# EAGLE library part WROOM02-13 (library wroom02)
Wroom by Espressif
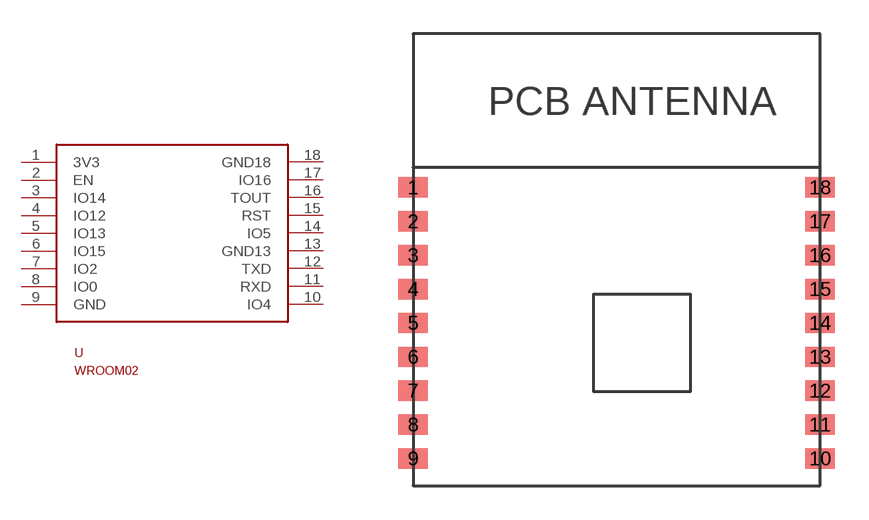
[diagram p0: symbol with the pads of WROOM02; footprint WROOM02]

Designator prefix -

## WROOM02-13  [WROOM02]
1  3V3
2  EN
3  IO14
4  IO12
5  IO13
6  IO15
7  IO2
8  IO0
9  GND
10  IO4
11  RXD
12  TXD
13  GND13
14  IO5
15  RST
16  TOUT
17  IO16
18  GND18

## Footprint WROOM02 (pad centres in mm)
smd 1.3 x 0.9: 1 0,13.2; 2 0,11.7; 3 0,10.2; 4 0,8.7; 5 0,7.2; 6 0,5.7; 7 0,4.2; 8 0,2.7; 9 0,1.2; 10 18,1.2; 11 18,2.7; 12 18,4.2; 13 18,5.7; 14 18,7.2; 15 18,8.7; 16 18,10.2; 17 18,11.7; 18 18,13.2